# Altium schematic symbol library VSS_SYMBOL.SchLib: 1 symbol
Pins are listed as number, name and electrical type; pins without a type are passive.

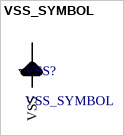
[diagram p0: symbol VSS_SYMBOL]

## VSS_SYMBOL
designator VSS?
VSS power symbol
pins: 1 VSS (power)